# EAGLE library part N2516-6002-RB (library N2516-6002-RB)
CONN HEADER VERT 16POS 2.54MM Source: Datasheet <http://multimedia.3m.com/mws/media/330367O/3m-four-wall-header-2500-series-ts-0770.pdf>
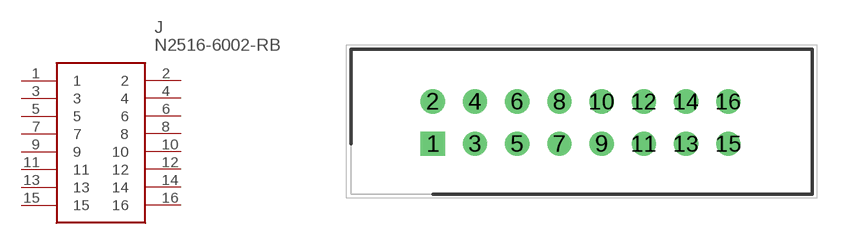
[diagram p0: symbol with the pads of SHDR16W77P254_2X8_2764X859X100; footprint SHDR16W77P254_2X8_2764X859X100]

Designator prefix J

## N2516-6002-RB (Arrow_Part_Number: N2516-6002-RB; Arrow_Price-Stock: https://www.arrow.com/en/products/n2516-6002-rb/3m?region=europe; Description: CONN HEADER VERT 16POS 2.54MM; Height: 10.04mm; Manufacturer_Name: 3M; Manufacturer_Part_Number: N2516-6002-RB)  [SHDR16W77P254_2X8_2764X859X100]
1  1
2  2
3  3
4  4
5  5
6  6
7  7
8  8
9  9
10  10
11  11
12  12
13  13
14  14
15  15
16  16

## Footprint SHDR16W77P254_2X8_2764X859X100 (pad centres in mm)
N2516-6002-RB
drill 0.95 pad 1.425 square: 1 0,0
drill 0.95 pad 1.425: 2 0,2.54; 3 2.54,0; 4 2.54,2.54; 5 5.08,0; 6 5.08,2.54; 7 7.62,0; 8 7.62,2.54; 9 10.16,0; 10 10.16,2.54; 11 12.7,0; 12 12.7,2.54; 13 15.24,0; 14 15.24,2.54; 15 17.78,0; 16 17.78,2.54